# Altium footprint library Titan.PcbLib: 49 footprints (part 1 of 4)
Each footprint in its own frame and in the unit in brackets; x right, y up, seen from the top. Pads: shape width x height; smd on the part's side, far side on the other; paste and mask are expansions set on the pad; w line width, h text height; cw(c..) or ccw(c..) is an arc to the next point about the centre after c.
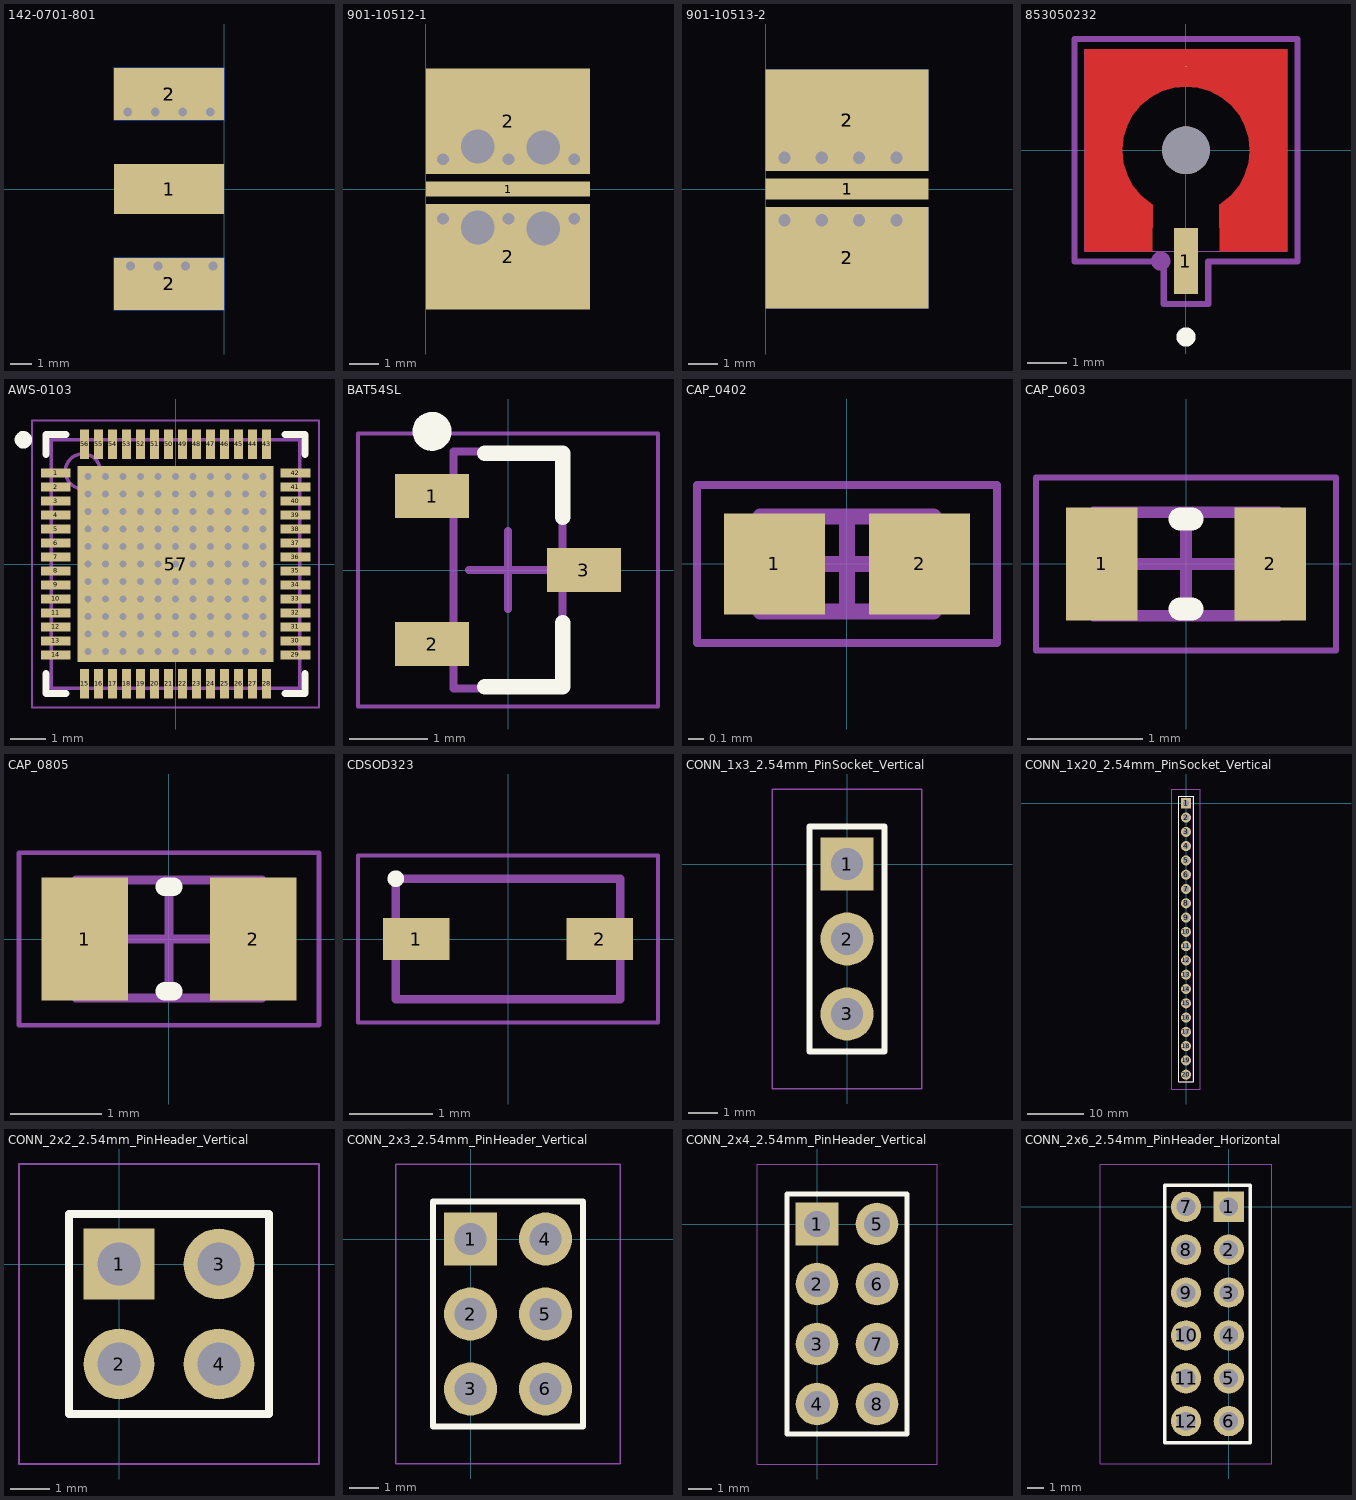
[diagram p0: the footprints below, top view; thin cyan lines are the x and y axes]

## 142-0701-801 [mil] "Connector RF SMA Edge Launch"
pads (5):
  rect 200x90 smd: 1(-100,0)
  rect 200x95 smd: 2(-100,-172.5) 2(-100,172.5)
  rect 200x95 smd far side: 2(-100,-172.5) 2(-100,172.5)
via -25,140 diameter 16 hole 16
via -75,140 diameter 16 hole 16
via -125,140 diameter 16 hole 16
via -175,140 diameter 16 hole 16
via -20,-140 diameter 16 hole 16
via -70,-140 diameter 16 hole 16
via -120,-140 diameter 16 hole 16
via -170,-140 diameter 16 hole 16
3D body "SMA_EdgeLaunch.step": height 173.23, standoff -138.58, extent -187.01,-187.6 375.2,187.6

## 901-10512-1 [mm] "SMA PCB End Launch Straight Jack 50 Ohm 0.085 Square Flange High Frequency 0.015 Pin"
pads (7):
  rect 5.54x0.49 smd: 1(2.77,0)
  round 0 hole 1.14: 2(1.75,-1.3) 2(1.75,1.435) 2(3.96,-1.335) 2(3.96,1.4)
  rect 5.54x3.564 smd: 2(2.77,-2.283) 2(2.77,2.283)
via 5,-1.001 diameter 0.4 hole 0.4
via 5,1.001 diameter 0.4 hole 0.4
via 2.79,1.001 diameter 0.4 hole 0.4
via 0.58,1.001 diameter 0.4 hole 0.4
via 2.79,-1.001 diameter 0.4 hole 0.4
via 0.58,-1.001 diameter 0.4 hole 0.4
3D body "901-10512-1.stp": height 3.36, standoff -2.99, extent -9.53,-3.175 4.55,3.175

## 901-10513-2 [mm] "SMA PCB End Launch Straight Jack 50 Ohm 0.062 High Frequency"
pads (5):
  rect 5.54x0.72 smd: 1(2.77,0)
  rect 5.54x3.45 smd: 2(2.77,-2.34) 2(2.77,2.34)
  rect 5.54x3.45 smd far side: 2(2.77,-2.34) 2(2.77,2.34)
via 0.64,-1.065 diameter 0.41 hole 0.41
via 1.91,-1.065 diameter 0.41 hole 0.41
via 3.18,-1.065 diameter 0.41 hole 0.41
via 4.45,-1.065 diameter 0.41 hole 0.41
via 4.45,1.065 diameter 0.41 hole 0.41
via 3.18,1.065 diameter 0.41 hole 0.41
via 1.91,1.065 diameter 0.41 hole 0.41
via 0.64,1.065 diameter 0.41 hole 0.41
3D body "901-10513-2.step": height 3.28, standoff -2.91, extent -9.53,-3.137 4.55,3.137

## 853050232 [mil]
pads (3):
  rect 24x65 smd paste-32.5 mask-32.5: 1(0,-109.5)
  round 1 smd mask+0: 2(0,82.68)
  round 47 hole 47 unplated paste-99999 mask+0: ""(0,0)
Top Layer:
  region: -33.5,-100 -100,-100 -100,100 100,100 100,-100 33.5,-100 33,-54 35,-52.38 44.55,-44.55 52.38,-35 58.2,-24.11 61.79,-12.29 63,0 61.79,12.29 58.2,24.11 52.38,35 44.55,44.55 35,52.38 24.11,58.2 12.29,61.79 0,63 -12.29,61.79 -24.11,58.2 -35,52.38 -44.55,44.55 -52.38,35 -58.2,24.11 -61.79,12.29 -63,0 -61.79,-12.29 -58.2,-24.11 -52.38,-35 -44.55,-44.55 -35,-52.38 -33,-54
Top Overlay:
  circle w15: c0,-184.5 r2
Top Paste:
  region: -33.5,-100 -100,-100 -100,100 100,100 100,-100 33.5,-100 33,-54 35,-52.38 44.55,-44.55 52.38,-35 58.2,-24.11 61.79,-12.29 63,0 61.79,12.29 58.2,24.11 52.38,35 44.55,44.55 35,52.38 24.11,58.2 12.29,61.79 0,63 -12.29,61.79 -24.11,58.2 -35,52.38 -44.55,44.55 -52.38,35 -58.2,24.11 -61.79,12.29 -63,0 -61.79,-12.29 -58.2,-24.11 -52.38,-35 -44.55,-44.55 -35,-52.38 -33,-54
Top Solder:
  region: -33.5,-100 -100,-100 -100,100 100,100 100,-100 33.5,-100 33,-54 35,-52.38 44.55,-44.55 52.38,-35 58.2,-24.11 61.79,-12.29 63,0 61.79,12.29 58.2,24.11 52.38,35 44.55,44.55 35,52.38 24.11,58.2 12.29,61.79 0,63 -12.29,61.79 -24.11,58.2 -35,52.38 -44.55,44.55 -52.38,35 -58.2,24.11 -61.79,12.29 -63,0 -61.79,-12.29 -58.2,-24.11 -52.38,-35 -44.55,-44.55 -35,-52.38 -33,-54
Mechanical 13:
  circle w15: c-25,-109.5 r2
  lines w1: -100,-100 100,-100 100,100 -100,100 -100,-100
Mechanical 15:
  lines w6: -110,-110 -110,110 110,110 110,-110 22,-110 22,-152 -22,-152 -22,-110 -110,-110
3D body "853050232.step": height 160.55, standoff -0.87, extent -98.43,-136.79 98.43,98.43

## AWS-0103 [mm] "8.5 - 10.55 GHz X-Band Dual Rx Single Tx Beamformer"
height 0.9
pads (57):
  rect 0.85x0.25 smd: 1(-3.425,2.6) 2(-3.425,2.2) 3(-3.425,1.8) 4(-3.425,1.4) 5(-3.425,1) 6(-3.425,0.6) 7(-3.425,0.2) 8(-3.425,-0.2) 9(-3.425,-0.6) 10(-3.425,-1) 11(-3.425,-1.4) 12(-3.425,-1.8) 13(-3.425,-2.2) 14(-3.425,-2.6) 29(3.425,-2.6) 30(3.425,-2.2) 31(3.425,-1.8) 32(3.425,-1.4) 33(3.425,-1) 34(3.425,-0.6) 35(3.425,-0.2) 36(3.425,0.2) 37(3.425,0.6) 38(3.425,1) 39(3.425,1.4) 40(3.425,1.8) 41(3.425,2.2) 42(3.425,2.6)
  rect 0.25x0.85 smd: 15(-2.6,-3.425) 16(-2.2,-3.425) 17(-1.8,-3.425) 18(-1.4,-3.425) 19(-1,-3.425) 20(-0.6,-3.425) 21(-0.2,-3.425) 22(0.2,-3.425) 23(0.6,-3.425) 24(1,-3.425) 25(1.4,-3.425) 26(1.8,-3.425) 27(2.2,-3.425) 28(2.6,-3.425) 43(2.6,3.425) 44(2.2,3.425) 45(1.8,3.425) 46(1.4,3.425) 47(1,3.425) 48(0.6,3.425) 49(0.2,3.425) 50(-0.2,3.425) 51(-0.6,3.425) 52(-1,3.425) 53(-1.4,3.425) 54(-1.8,3.425) 55(-2.2,3.425) 56(-2.6,3.425)
  rect 5.6x5.6 smd: 57(0,0)
via -2.5,-2.5 diameter 0.2 hole 0.2
via 1.5,-2.5 diameter 0.2 hole 0.2
via 2.5,-2.5 diameter 0.2 hole 0.2
via 2,-2.5 diameter 0.2 hole 0.2
via 1,-2.5 diameter 0.2 hole 0.2
via 0.5,-2.5 diameter 0.2 hole 0.2
via -1,-2.5 diameter 0.2 hole 0.2
via 0,-2.5 diameter 0.2 hole 0.2
via -0.5,-2.5 diameter 0.2 hole 0.2
via -1.5,-2.5 diameter 0.2 hole 0.2
via -2,-2.5 diameter 0.2 hole 0.2
via -2.5,0.5 diameter 0.2 hole 0.2
via -2.5,1 diameter 0.2 hole 0.2
via -2.5,1.5 diameter 0.2 hole 0.2
via -2.5,2 diameter 0.2 hole 0.2
via -2.5,2.5 diameter 0.2 hole 0.2
via -2.5,-2 diameter 0.2 hole 0.2
via -2.5,-1.5 diameter 0.2 hole 0.2
via -2.5,-1 diameter 0.2 hole 0.2
via -2.5,-0.5 diameter 0.2 hole 0.2
via -2.5,0 diameter 0.2 hole 0.2
via -1,0.5 diameter 0.2 hole 0.2
via 0,0.5 diameter 0.2 hole 0.2
via -0.5,0.5 diameter 0.2 hole 0.2
via -1.5,0.5 diameter 0.2 hole 0.2
via -2,0.5 diameter 0.2 hole 0.2
via 0,1 diameter 0.2 hole 0.2
via -0.5,1 diameter 0.2 hole 0.2
via -1,1 diameter 0.2 hole 0.2
via -1.5,1 diameter 0.2 hole 0.2
via -2,1 diameter 0.2 hole 0.2
via 0,1.5 diameter 0.2 hole 0.2
via -0.5,1.5 diameter 0.2 hole 0.2
via -1,1.5 diameter 0.2 hole 0.2
via -1.5,1.5 diameter 0.2 hole 0.2
via -2,1.5 diameter 0.2 hole 0.2
via 0,2 diameter 0.2 hole 0.2
via -0.5,2 diameter 0.2 hole 0.2
via -1,2 diameter 0.2 hole 0.2
via -1.5,2 diameter 0.2 hole 0.2
via -2,2 diameter 0.2 hole 0.2
via 0,2.5 diameter 0.2 hole 0.2
via -0.5,2.5 diameter 0.2 hole 0.2
via -1,2.5 diameter 0.2 hole 0.2
via -1.5,2.5 diameter 0.2 hole 0.2
via -2,2.5 diameter 0.2 hole 0.2
via 1.5,0.5 diameter 0.2 hole 0.2
via 2.5,0.5 diameter 0.2 hole 0.2
via 2,0.5 diameter 0.2 hole 0.2
via 1,0.5 diameter 0.2 hole 0.2
via 0.5,0.5 diameter 0.2 hole 0.2
via 2.5,1 diameter 0.2 hole 0.2
via 2,1 diameter 0.2 hole 0.2
via 1.5,1 diameter 0.2 hole 0.2
via 1,1 diameter 0.2 hole 0.2
via 0.5,1 diameter 0.2 hole 0.2
via 2.5,1.5 diameter 0.2 hole 0.2
via 2,1.5 diameter 0.2 hole 0.2
via 1.5,1.5 diameter 0.2 hole 0.2
via 1,1.5 diameter 0.2 hole 0.2
via 0.5,1.5 diameter 0.2 hole 0.2
via 2.5,2 diameter 0.2 hole 0.2
via 2,2 diameter 0.2 hole 0.2
via 1.5,2 diameter 0.2 hole 0.2
via 1,2 diameter 0.2 hole 0.2
via 0.5,2 diameter 0.2 hole 0.2
via 2.5,2.5 diameter 0.2 hole 0.2
via 2,2.5 diameter 0.2 hole 0.2
via 1.5,2.5 diameter 0.2 hole 0.2
via 1,2.5 diameter 0.2 hole 0.2
via 0.5,2.5 diameter 0.2 hole 0.2
via 1.5,-2 diameter 0.2 hole 0.2
via 2.5,-2 diameter 0.2 hole 0.2
via 2,-2 diameter 0.2 hole 0.2
via 1,-2 diameter 0.2 hole 0.2
via 0.5,-2 diameter 0.2 hole 0.2
via 2.5,-1.5 diameter 0.2 hole 0.2
via 2,-1.5 diameter 0.2 hole 0.2
via 1.5,-1.5 diameter 0.2 hole 0.2
via 1,-1.5 diameter 0.2 hole 0.2
via 0.5,-1.5 diameter 0.2 hole 0.2
via 2.5,-1 diameter 0.2 hole 0.2
via 2,-1 diameter 0.2 hole 0.2
via 1.5,-1 diameter 0.2 hole 0.2
via 1,-1 diameter 0.2 hole 0.2
via 0.5,-1 diameter 0.2 hole 0.2
via 2.5,-0.5 diameter 0.2 hole 0.2
via 2,-0.5 diameter 0.2 hole 0.2
via 1.5,-0.5 diameter 0.2 hole 0.2
via 1,-0.5 diameter 0.2 hole 0.2
via 0.5,-0.5 diameter 0.2 hole 0.2
via 2.5,0 diameter 0.2 hole 0.2
via 2,0 diameter 0.2 hole 0.2
via 1.5,0 diameter 0.2 hole 0.2
via 1,0 diameter 0.2 hole 0.2
via 0.5,0 diameter 0.2 hole 0.2
via -1,-2 diameter 0.2 hole 0.2
via 0,-2 diameter 0.2 hole 0.2
via -0.5,-2 diameter 0.2 hole 0.2
via -1.5,-2 diameter 0.2 hole 0.2
via -2,-2 diameter 0.2 hole 0.2
via 0,-1.5 diameter 0.2 hole 0.2
via -0.5,-1.5 diameter 0.2 hole 0.2
via -1,-1.5 diameter 0.2 hole 0.2
via -1.5,-1.5 diameter 0.2 hole 0.2
via -2,-1.5 diameter 0.2 hole 0.2
via 0,-1 diameter 0.2 hole 0.2
via -0.5,-1 diameter 0.2 hole 0.2
via -1,-1 diameter 0.2 hole 0.2
via -1.5,-1 diameter 0.2 hole 0.2
via -2,-1 diameter 0.2 hole 0.2
via 0,-0.5 diameter 0.2 hole 0.2
via -0.5,-0.5 diameter 0.2 hole 0.2
via -1,-0.5 diameter 0.2 hole 0.2
via -1.5,-0.5 diameter 0.2 hole 0.2
via -2,-0.5 diameter 0.2 hole 0.2
via 0,0 diameter 0.2 hole 0.2
via -0.5,0 diameter 0.2 hole 0.2
via -1,0 diameter 0.2 hole 0.2
via -1.5,0 diameter 0.2 hole 0.2
via -2,0 diameter 0.2 hole 0.2
Top Overlay:
  circle w0.25: c-4.35,3.55 r0.125
  lines w0.2: -3.7,-3.125 -3.7,-3.7 -3.125,-3.7 ; -3.7,3.125 -3.7,3.7 -3.125,3.7 ; 3.125,-3.7 3.7,-3.7 3.7,-3.125 ; 3.125,3.7 3.7,3.7 3.7,3.125
Mechanical 13:
  circle w0.1: c-2.65,2.65 r0.5
  lines w0.1: -3.55,-3.55 3.55,-3.55 3.55,3.55 -3.55,3.55 -3.55,-3.55
Mechanical 15:
  lines w0.05: -4.1,-4.1 4.1,-4.1 4.1,4.1 -4.1,4.1 -4.1,-4.1
  lines w0.1: -0.5,0 0.5,0 ; 0,-0.5 0,0.5
3D body "AWS-0103.step": height 0.9, standoff 0, extent -3.65,-3.65 3.65,3.65

## BAT54SL [mm] "SOT23, 3-Leads, Body 2.92x2.37mm, Pitch 0.95mm, IPC Medium Density"
height 1.11
pads (3):
  rect 0.95x0.56 smd: 1(-0.975,0.95) 2(-0.975,-0.95) 3(0.975,0)
Top Overlay:
  circle w0.25: c-0.975,1.78 r0.125
  lines w0.2: -0.3,-1.5 0.7,-1.5 0.7,-0.68 ; -0.3,1.5 0.7,1.5 0.7,0.68
Mechanical 13:
  lines w0.1: -0.7,-1.52 -0.7,1.52 0.7,1.52 0.7,-1.52 -0.7,-1.52
Mechanical 15:
  lines w0.05: -1.925,-1.75 -1.925,1.75 1.925,1.75 1.925,-1.75 -1.925,-1.75
  lines w0.1: -0.5,0 0.5,0 ; 0,-0.5 0,0.5
3D body "BAT54SL.step": height 1.11, standoff 0, extent -1.32,-1.52 1.32,1.52

## CAP_0402 [mm] "Chip Capacitor, 2-Leads, Body 1.00x0.50mm, IPC Medium Density"
height 0.6
pads (2):
  rect 0.64x0.64 smd: 1(-0.46,0) 2(0.46,0)
Mechanical 13:
  lines w0.1: -0.55,-0.3 0.55,-0.3 0.55,0.3 -0.55,0.3 -0.55,-0.3
Mechanical 15:
  lines w0.05: -0.95,-0.5 0.95,-0.5 0.95,0.5 -0.95,0.5 -0.95,-0.5
  lines w0.1: -0.3,0 0.3,0 ; 0,-0.3 0,0.3
3D body "Capacitor 0402.step": height 0.6, standoff 0, extent -0.55,-0.3 0.55,0.3

## CAP_0603 [mm] "Chip Capacitor, 2-Leads, Body 1.55x0.85mm, IPC Medium Density"
height 0.5
pads (2):
  rect 0.62x0.98 smd: 1(-0.73,0) 2(0.73,0)
Top Overlay:
  lines w0.2: -0.05,-0.39 0.05,-0.39 ; -0.05,0.39 0.05,0.39
Mechanical 13:
  lines w0.1: -0.8,-0.45 -0.8,0.45 0.8,0.45 0.8,-0.45 -0.8,-0.45
Mechanical 15:
  lines w0.05: -1.3,-0.75 -1.3,0.75 1.3,0.75 1.3,-0.75 -1.3,-0.75
  lines w0.1: -0.45,0 0.45,0 ; 0,-0.45 0,0.45
3D body "CAP_0603.step": height 0.5, standoff 0, extent -0.8,-0.45 0.8,0.45

## CAP_0805 [mm] "Chip Capacitor, 2-Leads, Body 2.00x1.25mm, IPC Medium Density"
height 0.5
pads (2):
  rect 0.95x1.35 smd: 1(-0.925,0) 2(0.925,0)
Top Overlay:
  lines w0.2: -0.05,-0.575 0.05,-0.575 ; -0.05,0.575 0.05,0.575
Mechanical 13:
  lines w0.1: -1.025,-0.65 -1.025,0.65 1.025,0.65 1.025,-0.65 -1.025,-0.65
Mechanical 15:
  lines w0.05: -1.65,-0.95 -1.65,0.95 1.65,0.95 1.65,-0.95 -1.65,-0.95
  lines w0.1: -0.5,0 0.5,0 ; 0,-0.5 0,0.5
3D body "CAP_0805.step": height 0.5, standoff 0, extent -1.025,-0.65 1.025,0.65

## CDSOD323 [mm] "TVS Diode Surface Mount SOD-323"
height 2.29
pads (2):
  rect 0.8x0.5 smd: 1(-1.1,0) 2(1.1,0)
Top Overlay:
  circle w0.1: c-1.346,0.724 r0.05
Mechanical 13:
  lines w0.025: -1.346,-0.724 1.346,-0.724 1.346,0.724 -1.346,0.724 -1.346,-0.724
  lines w0.1: -1.346,-0.724 1.346,-0.724 1.346,0.724 -1.346,0.724 -1.346,-0.724
Mechanical 15:
  lines w0.05: -1.8,-1 -1.8,1 1.8,1 1.8,-1 -1.8,-1
3D body "CDSOD323_BRN.step": height 1.15, standoff 0, extent -1.346,-0.724 1.346,0.724

## CONN_1x3_2.54mm_PinSocket_Vertical [mm] "1x3 2.54mm Vertical Pin Socket"
height 5.08
pads (3):
  rect 1.8x1.8 hole 1.1: 1(0,0)
  round 1.8 hole 1.1: 2(0,-2.54) 3(0,-5.08)
Top Overlay:
  lines w0.2: -1.27,-6.35 1.27,-6.35 1.27,1.27 -1.27,1.27 -1.27,-6.35
Mechanical 13:
  lines w0.1: 1.27,-6.35 1.27,-6.35 ; 1.27,-6.35 1.27,1.27 -1.27,1.27 -1.27,-6.35 1.27,-6.35
Mechanical 15:
  lines w0.05: -2.54,-7.62 -2.54,2.54 2.54,2.54 2.54,-7.62 -2.54,-7.62
3D body "Pin Socket 1x3 2.54mm Vertical.step": height 8.5, standoff -2.9, extent -1.301,-6.35 1.239,1.27

## CONN_1x20_2.54mm_PinSocket_Vertical [mm] "1x20 2.54mm Vertical Pin Socket"
height 5.08
pads (20):
  rect 1.8x1.8 hole 1.1: 1(0,0)
  round 1.8 hole 1.1: 2(0,-2.54) 3(0,-5.08) 4(0,-7.62) 5(0,-10.16) 6(0,-12.7) 7(0,-15.24) 8(0,-17.78) 9(0,-20.32) 10(0,-22.86) 11(0,-25.4) 12(0,-27.94) 13(0,-30.48) 14(0,-33.02) 15(0,-35.56) 16(0,-38.1) 17(0,-40.64) 18(0,-43.18) 19(0,-45.72) 20(0,-48.26)
Top Overlay:
  lines w0.2: -1.27,-49.53 -1.27,1.27 1.27,1.27 1.27,-49.53 -1.27,-49.53
Mechanical 13:
  lines w0.1: -1.27,-49.53 1.27,-49.53 1.27,1.27 -1.27,1.27 -1.27,-49.53
Mechanical 15:
  lines w0.05: -2.54,-50.8 2.54,-50.8 2.54,2.54 -2.54,2.54 -2.54,-50.8
3D body "Pin Socket 1x20 2.54mm Vertical.step": height 8.5, standoff -2.9, extent -1.27,-49.53 1.27,1.27

## CONN_2x2_2.54mm_PinHeader_Vertical [mm] "2x2 2.54mm Vertical Pin Header"
height 5.08
pads (4):
  rect 1.8x1.8 hole 1.1: 1(0,0)
  round 1.8 hole 1.1: 2(0,-2.54) 3(2.54,0) 4(2.54,-2.54)
Top Overlay:
  lines w0.2: -1.27,-3.81 3.81,-3.81 3.81,1.27 -1.27,1.27 -1.27,-3.81
Mechanical 13:
  lines w0.1: -1.27,-3.81 3.81,-3.81 3.81,1.27 -1.27,1.27 -1.27,-3.81
Mechanical 15:
  lines w0.05: -2.54,-5.08 -2.54,2.54 5.08,2.54 5.08,-5.08 -2.54,-5.08
3D body "Pin Header 2x2 2.54mm Vertical.step": height 9.5, standoff -3.2, extent -1.27,-3.81 3.81,1.27

## CONN_2x3_2.54mm_PinHeader_Vertical [mm] "2x3 2.54mm Vertical Pin Header"
height 5.08
pads (6):
  rect 1.8x1.8 hole 1.1: 1(0,0)
  round 1.8 hole 1.1: 2(0,-2.54) 3(0,-5.08) 4(2.54,0) 5(2.54,-2.54) 6(2.54,-5.08)
Top Overlay:
  lines w0.2: -1.27,-6.35 -1.27,1.27 3.81,1.27 3.81,-6.35 -1.27,-6.35
Mechanical 13:
  lines w0.1: -1.27,-6.35 3.81,-6.35 3.81,1.27 -1.27,1.27 -1.27,-6.35
Mechanical 15:
  lines w0.05: -2.54,-7.62 -2.54,2.54 5.08,2.54 5.08,-7.62 -2.54,-7.62
3D body "Pin Header 2x3 2.54mm Vertical.step": height 9.5, standoff -3.2, extent -1.27,-6.35 3.81,1.27

## CONN_2x4_2.54mm_PinHeader_Vertical [mm] "2x4 2.54mm Vertical Pin Header"
height 5.08
pads (8):
  rect 1.8x1.8 hole 1.1: 1(0,0)
  round 1.8 hole 1.1: 2(0,-2.54) 3(0,-5.08) 4(0,-7.62) 5(2.54,0) 6(2.54,-2.54) 7(2.54,-5.08) 8(2.54,-7.62)
Top Overlay:
  lines w0.2: -1.27,-8.89 -1.27,1.27 3.81,1.27 3.81,-8.89 -1.27,-8.89
Mechanical 13:
  lines w0.1: -1.27,-8.89 -1.27,1.27 3.81,1.27 3.81,-8.89 -1.27,-8.89
Mechanical 15:
  lines w0.05: -2.54,-10.16 5.08,-10.16 5.08,2.54 -2.54,2.54 -2.54,-10.16
3D body "Pin Header 2x4 2.54mm Vertical.step": height 9.5, standoff -3.2, extent -1.27,-8.89 3.81,1.27

## CONN_2x6_2.54mm_PinHeader_Horizontal [mm] "2x6 2.54mm Horizontal Pin Header"
height 5.08
pads (12):
  rect 1.8x1.8 hole 1.1: 1(0,0)
  round 1.8 hole 1.1: 2(0,-2.54) 3(0,-5.08) 4(0,-7.62) 5(0,-10.16) 6(0,-12.7) 7(-2.54,0) 8(-2.54,-2.54) 9(-2.54,-5.08) 10(-2.54,-7.62) 11(-2.54,-10.16) 12(-2.54,-12.7)
Top Overlay:
  lines w0.2: -3.81,-13.97 -3.81,1.27 1.27,1.27 1.27,-13.97 -3.81,-13.97
Mechanical 13:
  lines w0.1: -3.81,-13.97 -3.81,1.27 1.27,1.27 1.27,-13.97 -3.81,-13.97
Mechanical 15:
  lines w0.05: -7.62,-15.24 2.54,-15.24 2.54,2.54 -7.62,2.54 -7.62,-15.24
3D body "CON12_2X6_P100RM_HDR_TYC.step": height 5.08, standoff -6.35, extent -12.446,-13.97 0.381,1.27